# Altium schematic symbol library MyOwnSchlib_ver1.2.SchLib: 50 symbols
Pins are listed as number, name and electrical type; pins without a type are passive.

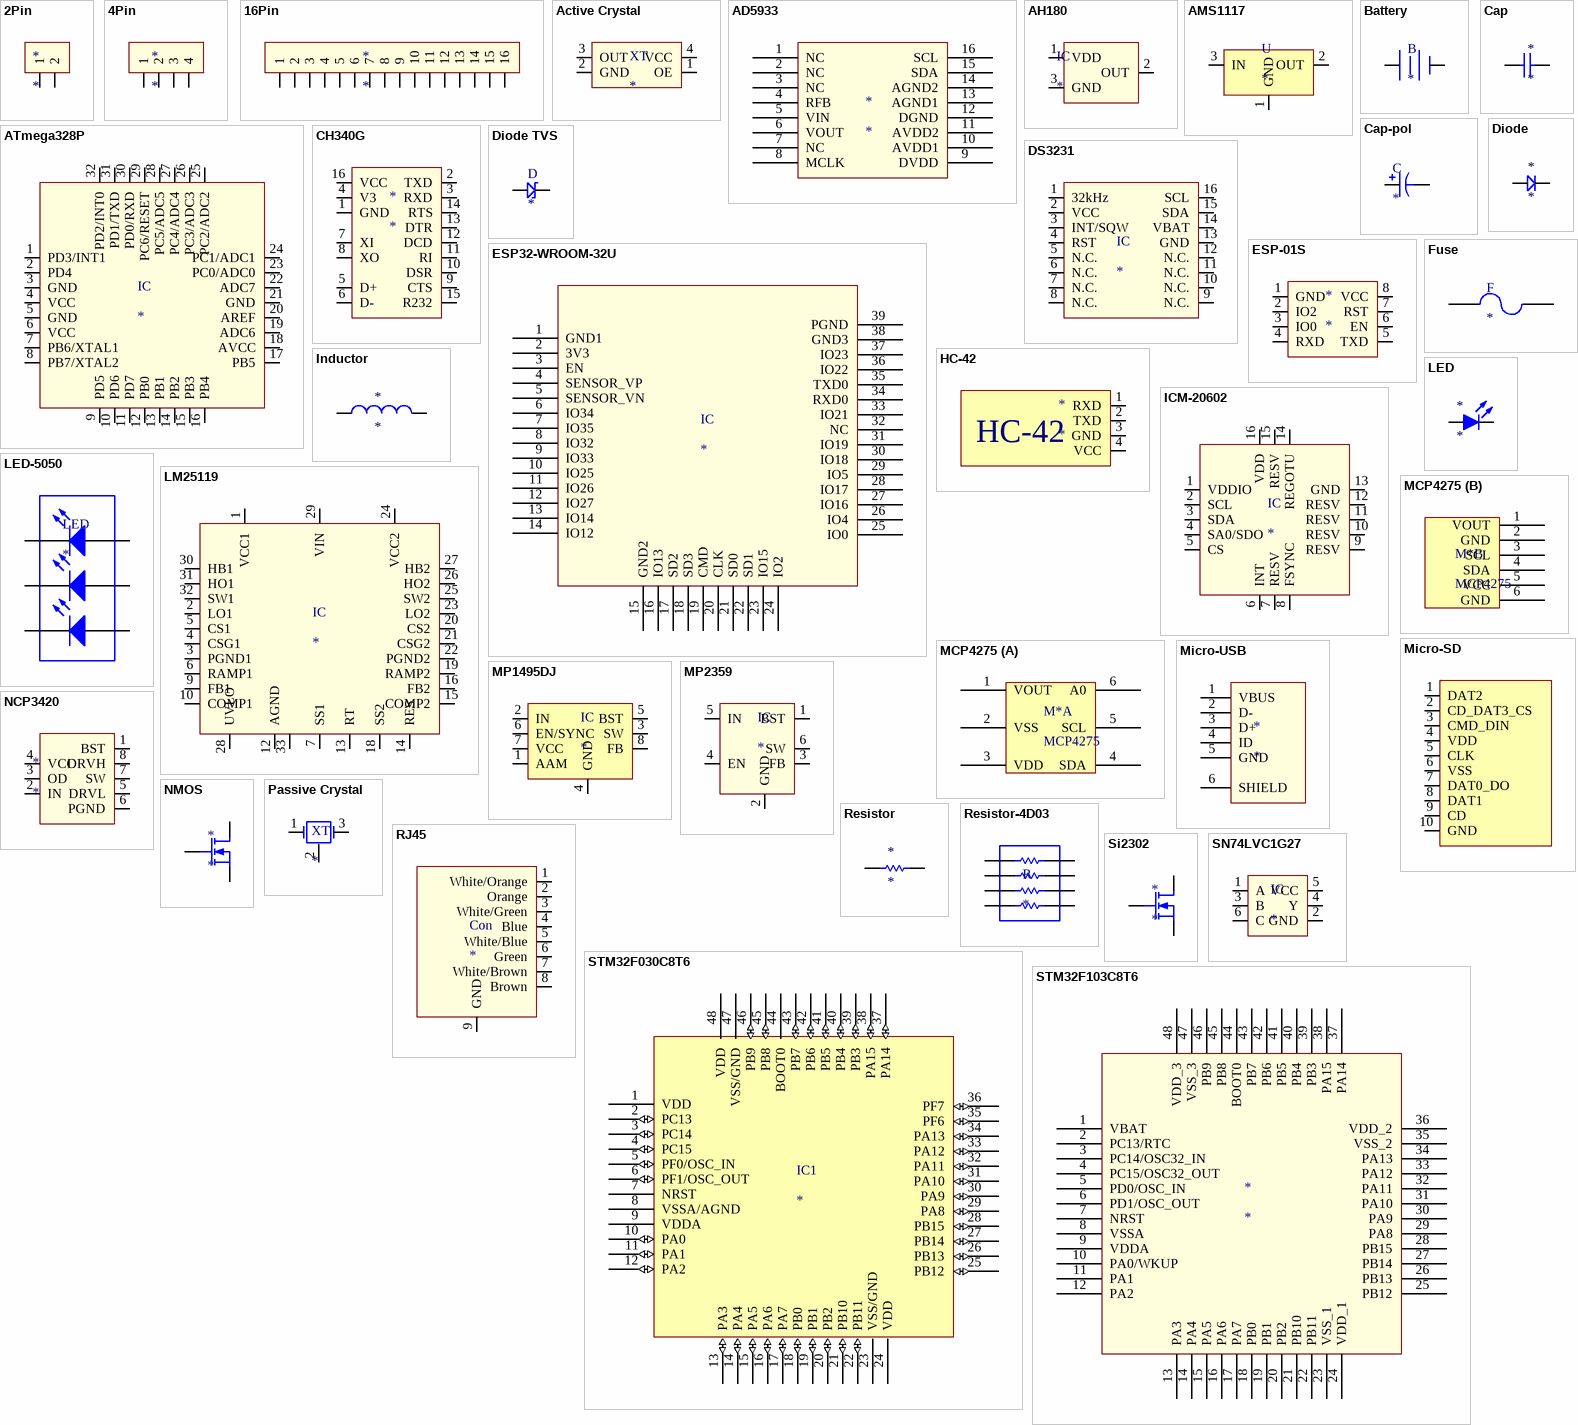
[diagram p0: symbols 2Pin to STM32F103C8T6]

## 2Pin
designator *
footprint XH2.54-2pin
pins: 1, 2

## 4Pin
designator *
footprint XH2.54-4pin
footprint 2.54-4pins
pins: 1, 2, 3, 4

## 16Pin
designator *
footprint 2.54-16Pin
footprint 2.54-SMD-16Pin
footprint 2.54-SMD-16Pin-F
pins: 1, 2, 3, 4, 5, 6, 7, 8, 9, 10, 11, 12, 13, 14, 15, 16

## Active Crystal
designator XT
frequency: *
footprint 3225-A
pins: 1 OE, 2 GND, 3 OUT, 4 VCC

## AD5933
designator *
footprint SSOP16 (SOP, 16-Leads, Body 6.20x5.30mm, Pitch 0.65mm, IPC Medium Density)
pins: 1 NC, 2 NC, 3 NC, 4 RFB, 5 VIN (power), 6 VOUT (power), 7 NC, 8 MCLK, 9 DVDD (power), 10 AVDD1 (power), 11 AVDD2 (power), 12 DGND (power), 13 AGND1 (power), 14 AGND2 (power), 15 SDA, 16 SCL

## AH180
designator IC
footprint SOT23
pins: 1 VDD, 2 OUT, 3 GND

## AMS1117
designator U
footprint SOT-223
pins: 1 GND, 2 OUT, 3 IN

## ATmega328P
designator IC
footprint tqfp32
pins: 1 PD3/INT1, 2 PD4, 3 GND, 4 VCC, 5 GND, 6 VCC, 7 PB6/XTAL1, 8 PB7/XTAL2, 9 PD5, 10 PD6, 11 PD7, 12 PB0, 13 PB1, 14 PB2, 15 PB3, 16 PB4, 17 PB5, 18 AVCC, 19 ADC6, 20 AREF, 21 GND, 22 ADC7, 23 PC0/ADC0, 24 PC1/ADC1, 25 PC2/ADC2, 26 PC3/ADC3, 27 PC4/ADC4, 28 PC5/ADC5, 29 PC6/RESET, 30 PD0/RXD, 31 PD1/TXD, 32 PD2/INT0

## Battery
designator B
footprint CR1220
pins: 1 +, 2 -

## Cap
designator *
value: *
footprint C0603 (Chip Capacitor, 2-Leads, Body 1.60x0.80mm, IPC Medium Density)
footprint C0805
footprint C1206 (Chip Capacitor, 2-Leads, Body 3.20x1.60mm, IPC Medium Density)
footprint C1210 (Chip Capacitor, 2-Leads, Body 3.20x2.50mm, IPC Medium Density)
pins: 1, 2

## Cap-pol
designator C
value: *
footprint Cap SMD 10x12.7mm
footprint CAP Tan SMD
pins: 1, 2

## CH340G
designator *
footprint SO16
pins: 1 GND, 2 TXD, 3 RXD, 4 V3, 5 D+, 6 D-, 7 XI, 8 XO, 9 CTS, 10 DSR, 11 RI, 12 DCD, 13 DTR, 14 RTS, 15 R232, 16 VCC

## Diode
designator *
footprint Diode-SOD-323
footprint Diode-DO-214AC
footprint DIODE-SMB
pins: 1 ANODE, 2 KATHODE

## Diode TVS
designator D
footprint DIODE-SMB
pins: 1 ANODE, 2 KATHODE

## DS3231
designator IC
footprint SOP16-300mil
pins: 1 32kHz (oe), 2 VCC (oe), 3 INT/SQW (oe), 4 RST (oe), 5 N.C. (oe), 6 N.C. (oe), 7 N.C. (oe), 8 N.C. (oe), 9 N.C. (oe), 10 N.C. (oe), 11 N.C. (oe), 12 N.C. (oe), 13 GND (oe), 14 VBAT (oe), 15 SDA (oe), 16 SCL (oe)

## ESP32-WROOM-32U
designator IC
footprint ESP32-Wroom-32u
pins: 1 GND1 (power), 2 3V3 (power), 3 EN (power), 4 SENSOR_VP (power), 5 SENSOR_VN (power), 6 IO34 (power), 7 IO35 (power), 8 IO32 (power), 9 IO33 (power), 10 IO25 (power), 11 IO26 (power), 12 IO27 (power), 13 IO14 (power), 14 IO12 (power), 15 GND2 (power), 16 IO13 (power), 17 SD2 (power), 18 SD3 (power), 19 CMD (power), 20 CLK (power), 21 SD0 (power), 22 SD1 (power), 23 IO15 (power), 24 IO2 (power), 25 IO0 (power), 26 IO4 (power), 27 IO16 (power), 28 IO17 (power), 29 IO5 (power), 30 IO18 (power), 31 IO19 (power), 32 NC (power), 33 IO21 (power), 34 RXD0 (power), 35 TXD0 (power), 36 IO22 (power), 37 IO23 (power), 38 GND3 (power), 39 PGND (power)

## ESP-01S
designator *
footprint ESP-01S
pins: 1 GND, 2 IO2, 3 IO0, 4 RXD, 5 TXD, 6 EN, 7 RST, 8 VCC

## Fuse
designator F
footprint FUSE-PPTC-5A
pins: 1, 2

## HC-42
designator *
footprint HC-42
pins: 1 RXD, 2 TXD, 3 GND (power), 4 VCC (power)

## ICM-20602
designator IC
Gyroscope and Accelerometer
footprint LGA-16
pins: 1 VDDIO, 2 SCL, 3 SDA, 4 SA0/SDO, 5 CS, 6 INT, 7 RESV, 8 FSYNC, 9 RESV, 10 RESV, 11 RESV, 12 RESV, 13 GND, 14 REGOTU, 15 RESV, 16 VDD

## Inductor
designator *
footprint CD32
footprint Inductor (6.95 x 6.6)
footprint Inductor (17 x 17)
footprint WE74435582200
footprint Inductor (5050)
pins: 1, 2

## LED
designator *
footprint LED-0805
pins: 1 A, 2 K

## LED-5050
designator LED
footprint LED-5050
pins: 1, 2, 3, 4, 5, 6

## LM25119
designator IC
footprint WQFN32
pins: 1 VCC1, 2 LO1, 3 PGND1, 4 CSG1, 5 CS1, 6 RAMP1, 7 SS1, 9 FB1, 10 COMP1, 12 AGND, 13 RT, 14 RES, 15 COMP2, 16 FB2, 18 SS2, 19 RAMP2, 20 CS2, 21 CSG2, 22 PGND2, 23 LO2, 24 VCC2, 25 SW2, 26 HO2, 27 HB2, 28 UVLO, 29 VIN, 30 HB1, 31 HO1, 32 SW1, 33 GND

## MCP4275
designator M*
footprint SOT23-6
footprint mcp4725
part A pins: 1 VOUT, 2 VSS, 3 VDD, 4 SDA, 5 SCL, 6 A0
part B pins: 1 VOUT, 2 GND, 3 SCL, 4 SDA, 5 VCC, 6 GND

## Micro-SD
designator SD  (value not drawn)
footprint Micro-SD
pins: 1 DAT2 (oe), 2 CD_DAT3_CS (oe), 3 CMD_DIN (oe), 4 VDD (oe), 5 CLK (oe), 6 VSS (oe), 7 DAT0_DO (oe), 8 DAT1 (oe), 9 CD (oe), 10 GND

## Micro-USB
designator *
footprint micro-usb
pins: 1 VBUS (power), 2 D-, 3 D+, 4 ID, 5 GND (power), 6 SHIELD (power)

## MP1495DJ
designator IC
footprint TSOT-23-8
pins: 1 AAM, 2 IN (oe), 3 SW (oe), 4 GND (oe), 5 BST (oe), 6 EN/SYNC (oe), 7 VCC (oe), 8 FB (oe)

## MP2359
designator IC
footprint SOT23-6
pins: 1 BST, 2 GND, 3 FB, 4 EN, 5 IN, 6 SW

## NCP3420
designator *
footprint SOP8
pins: 1 BST, 2 IN, 3 OD, 4 VCC, 5 DRVL, 6 PGND, 7 SW, 8 DRVH

## NMOS
designator *
footprint IRF6201
footprint EPC2014C
pins: 1 D, 2 G, 3 S

## Passive Crystal
designator XT
frequency: *
footprint 3225-P
pins: 1 OSC1, 2, 3 OSC2

## Resistor
designator *
value: *
footprint R0603 (Chip Resistor, 2-Leads, Body 1.60x0.80mm, IPC Medium Density)
footprint R0805
footprint R1206
footprint R1210
footprint R2010
footprint R2512
pins: 1, 2

## Resistor-4D03
designator R
footprint resistor-4D03
pins: 1, 2, 3, 4, 5, 6, 7, 8

## RJ45
designator Con
footprint RJ45_8pin_surface_mount
pins: 1 White/Orange, 2 Orange, 3 White/Green, 4 Blue, 5 White/Blue, 6 Green, 7 White/Brown, 8 Brown, 9 GND

## Si2302
designator *
footprint SOT23
pins: 1 G, 2 S, 3 D

## SN74LVC1G27
designator IC
footprint SOT23-6
pins: 1 A, 2 GND, 3 B, 4 Y, 5 VCC, 6 C

## STM32F030C8T6
designator IC1
footprint LQFP48
pins: 1 VDD (power), 2 PC13 (io), 3 PC14 (io), 4 PC15 (io), 5 PF0/OSC_IN (io), 6 PF1/OSC_OUT (io), 7 NRST (power), 8 VSSA/AGND (power), 9 VDDA (power), 10 PA0 (io), 11 PA1 (io), 12 PA2 (io), 13 PA3 (io), 14 PA4 (io), 15 PA5 (io), 16 PA6 (io), 17 PA7 (io), 18 PB0 (io), 19 PB1 (io), 20 PB2 (io), 21 PB10 (io), 22 PB11 (io), 23 VSS/GND (power), 24 VDD (power), 25 PB12 (io), 26 PB13 (io), 27 PB14 (io), 28 PB15 (io), 29 PA8 (io), 30 PA9 (io), 31 PA10 (io), 32 PA11 (io), 33 PA12 (io), 34 PA13 (io), 35 PF6 (io), 36 PF7 (io), 37 PA14 (io), 38 PA15 (io), 39 PB3 (io), 40 PB4 (io), 41 PB5 (io), 42 PB6 (io), 43 PB7 (io), 44 BOOT0 (power), 45 PB8 (io), 46 PB9 (io), 47 VSS/GND (power), 48 VDD (power)

## STM32F103C8T6
designator *
footprint LQFP48
pins: 1 VBAT, 2 PC13/RTC, 3 PC14/OSC32_IN, 4 PC15/OSC32_OUT, 5 PD0/OSC_IN, 6 PD1/OSC_OUT, 7 NRST, 8 VSSA, 9 VDDA, 10 PA0/WKUP, 11 PA1, 12 PA2, 13 PA3, 14 PA4, 15 PA5, 16 PA6, 17 PA7, 18 PB0, 19 PB1, 20 PB2, 21 PB10, 22 PB11, 23 VSS_1, 24 VDD_1, 25 PB12, 26 PB13, 27 PB14, 28 PB15, 29 PA8, 30 PA9, 31 PA10, 32 PA11, 33 PA12, 34 PA13, 35 VSS_2, 36 VDD_2, 37 PA14, 38 PA15, 39 PB3, 40 PB4, 41 PB5, 42 PB6, 43 PB7, 44 BOOT0, 45 PB8, 46 PB9, 47 VSS_3, 48 VDD_3

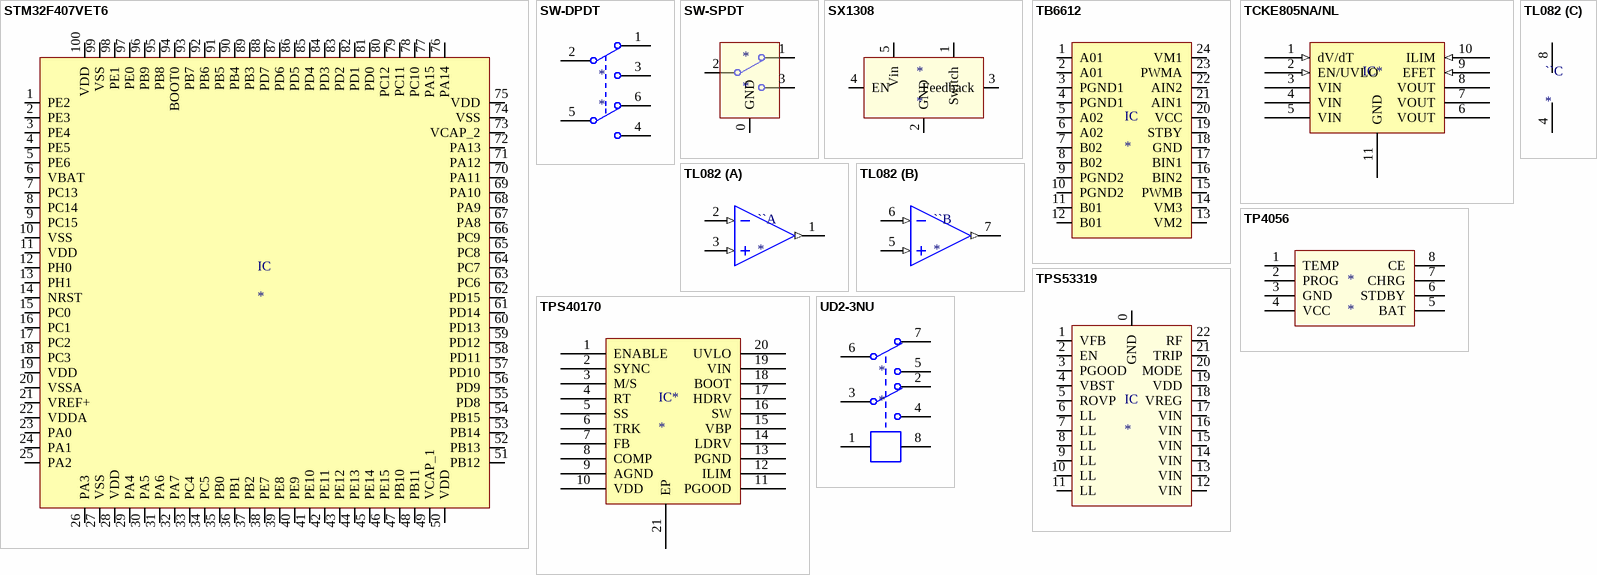
[diagram p1: symbols STM32F407VET6 to UD2-3NU]

## STM32F407VET6
designator IC
footprint LQFP100
pins: 1 PE2, 2 PE3, 3 PE4, 4 PE5, 5 PE6, 6 VBAT, 7 PC13, 8 PC14, 9 PC15, 10 VSS, 11 VDD, 12 PH0, 13 PH1, 14 NRST, 15 PC0, 16 PC1, 17 PC2, 18 PC3, 19 VDD, 20 VSSA, 21 VREF+, 22 VDDA, 23 PA0, 24 PA1, 25 PA2, 26 PA3, 27 VSS, 28 VDD, 29 PA4, 30 PA5, 31 PA6, 32 PA7, 33 PC4, 34 PC5, 35 PB0, 36 PB1, 37 PB2, 38 PE7, 39 PE8, 40 PE9, 41 PE10, 42 PE11, 43 PE12, 44 PE13, 45 PE14, 46 PE15, 47 PB10, 48 PB11, 49 VCAP_1, 50 VDD, 51 PB12, 52 PB13, 53 PB14, 54 PB15, 55 PD8, 56 PD9, 57 PD10, 58 PD11, 59 PD12, 60 PD13, 61 PD14, 62 PD15, 63 PC6, 64 PC7, 65 PC8, 66 PC9, 67 PA8, 68 PA9, 69 PA10, 70 PA11, 71 PA12, 72 PA13, 73 VCAP_2, 74 VSS, 75 VDD, 76 PA14, 77 PA15, 78 PC10, 79 PC11, 80 PC12, 81 PD0, 82 PD1, 83 PD2, 84 PD3, 85 PD4, 86 PD5, 87 PD6, 88 PD7, 89 PB3, 90 PB4, 91 PB5, 92 PB6, 93 PB7, 94 BOOT0, 95 PB8, 96 PB9, 97 PE0, 98 PE1, 99 VSS, 100 VDD

## SW-DPDT
designator *
footprint MSS-22CO2
footprint Switch-6pin
pins: 1, 2, 3, 4, 5, 6

## SW-SPDT
designator *
footprint MSS-22CO2
footprint Switch-6pin
footprint MK12C02 (SPDT)
pins: 0 GND, 1, 2, 3

## SX1308
designator *
footprint SOT23-6
pins: 1 Switch, 2 GND, 3 Feedback, 4 EN, 5 Vin

## TB6612
designator IC
footprint SSOP24
pins: 1 A01 (oe), 2 A01 (oe), 3 PGND1 (oe), 4 PGND1 (oe), 5 A02 (oe), 6 A02 (oe), 7 B02 (oe), 8 B02 (oe), 9 PGND2 (oe), 10 PGND2 (oe), 11 B01 (oe), 12 B01 (oe), 13 VM2 (oe), 14 VM3 (oe), 15 PWMB (oe), 16 BIN2 (oe), 17 BIN1 (oe), 18 GND (oe), 19 STBY (oe), 20 VCC (oe), 21 AIN1 (oe), 22 AIN2 (oe), 23 PWMA (oe), 24 VM1 (oe)

## TCKE805NA/NL
designator IC*
footprint WSON10B (SON, 10-Leads, Body 3.00x3.00mm, Pitch 0.50mm, Thermal Pad 2.40x1.57mm, IPC Medium Density)
pins: 1 dV/dT (in), 2 EN/UVLO (in), 3 VIN (power), 4 VIN (power), 5 VIN (power), 6 VOUT (power), 7 VOUT (power), 8 VOUT (power), 9 EFET (in), 10 ILIM (in), 11 GND

## TL082
designator ``
footprint SOP8
part A pins: 1 OUT (out), 2 IN- (in), 3 IN+ (in)
part B pins: 5 IN+ (in), 6 IN- (in), 7 OUT (out)
part C pins: 4 V- (power), 8 V+ (power)

## TP4056
designator *
footprint PSOP8
pins: 1 TEMP, 2 PROG, 3 GND, 4 VCC, 5 BAT, 6 STDBY, 7 CHRG, 8 CE

## TPS40170
designator IC*
footprint VQFN(RGY)-20
pins: 1 ENABLE, 2 SYNC, 3 M/S, 4 RT, 5 SS, 6 TRK, 7 FB, 8 COMP, 9 AGND, 10 VDD, 11 PGOOD, 12 ILIM, 13 PGND, 14 LDRV, 15 VBP, 16 SW, 17 HDRV, 18 BOOT, 19 VIN, 20 UVLO, 21 EP

## TPS53319
designator IC
footprint TPS53319
pins: 0 GND, 1 VFB, 2 EN, 3 PGOOD, 4 VBST, 5 ROVP, 6 LL, 7 LL, 8 LL, 9 LL, 10 LL, 11 LL, 12 VIN, 13 VIN, 14 VIN, 15 VIN, 16 VIN, 17 VIN, 18 VREG, 19 VDD, 20 MODE, 21 TRIP, 22 RF

## UD2-3NU
designator *
footprint UD2-3NU
pins: 1, 2, 3, 4, 5, 6, 7, 8